# Altium footprint library CON5_JST_ZR-SM4.PcbLib: 1 footprints
Each footprint in its own frame and in the unit in brackets; x right, y up, seen from the top. Pads: shape width x height; smd on the part's side, far side on the other; paste and mask are expansions set on the pad; w line width, h text height; cw(c..) or ccw(c..) is an arc to the next point about the centre after c.
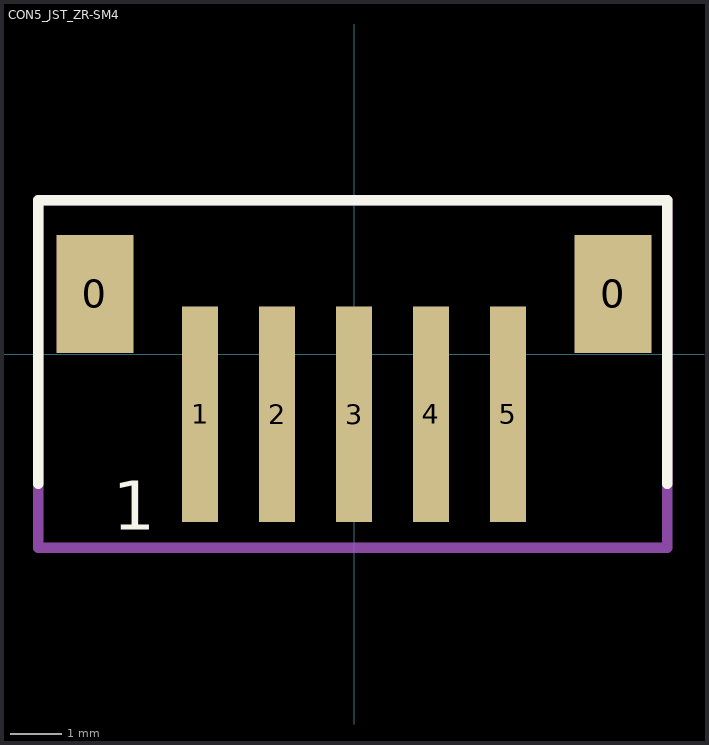
[diagram p0: the footprint, top view; thin cyan lines are the x and y axes]

## CON5_JST_ZR-SM4 [mm] "1.5mm pitch"
height 6.4
pads (7):
  rect 1.5x2.3 smd: 0(-5.05,1.175) 0(5.05,1.175)
  rect 0.7x4.2 smd: 1(-3,-1.175) 2(-1.5,-1.175) 3(0,-1.175) 4(1.5,-1.175) 5(3,-1.175)
Top Overlay:
  lines w0.203: -6.154,-2.526 -6.154,3 6.1,3 6.1,-2.526
  text "1" at -4.7,-3.425 h0.95
Mechanical 1:
  lines w0.203: -6.154,-3.775 -6.154,3 6.1,3 6.1,-3.775 -6.154,-3.775
3D body "B5B-ZR-SM4-TF.STEP": height 5, standoff 0, extent -5.25,-2.325 5.25,2.875